# Altium schematic symbol library Schlib.SchLib: 5 symbols
Pins are listed as number, name and electrical type; pins without a type are passive.

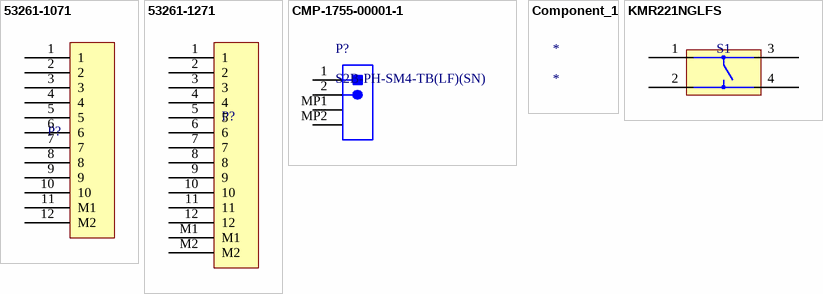
[diagram p0: symbols 53261-1071 to KMR221NGLFS]

## 53261-1071
designator P?  (value not drawn)
Headers & Wire Housings 1.25MM HDR 10 CKT Right-Angle; Manufacturer: Molex; Manufacturer Part Number: 53261-1071; Contact Resistance: 20mR; Number of Positions: 10; Gender: Male; Voltage Rating: 125V; Current Rating: 1A; Insulation Resistance: 100MR; Glow Wire Compliant: Non-compliant; Supplier 1: Digi-Key; Stock 1: 12832; Pricing 1: 1 = 1.88000, 10 = 1.70200, 100 = 1.45900, 500 = 1.21584 (USD); RoHS: Yes; Mount: Surface Mount; Contact Plating: Tin; Contact Material: Bronze; Housing Material: Thermoplastic; Min Operating Temperature: -40°C; Max Operating Temperature: 85°C; Packaging: Tape and Reel; Orientation: Right Angle; Package Quantity: 1000; Termination: SMD/SMT; Number of Rows: 1; Number of Contacts: 10; Voltage Rating (DC): 125V; Number of Circuits: 10; Pitch: 1.25mm; Radiation Hardening: No; Lead Free: Lead Free; Flammability Rating: UL94 V-0; REACH SVHC: Unknown; ComponentLink1URL: https://datasheet.ciiva.com/7167/1626154-7167504.pdf?src-supplier=Newark; ComponentLink1Description: https://datasheet.ciiva.com/7167/1626154-7167504.pdf?src-supplier=Newark; ComponentLink2URL: https://datasheet.ciiva.com/5154/0532611071-pcb-headers-256967-5154836.pdf?src-supplier=Mouser; ComponentLink2Description: https://datasheet.ciiva.com/5154/0532611071-pcb-headers-256967-5154836.pdf?src-supplier=Mouser; ComponentLink3URL: https://datasheet.ciiva.com/7810/1597313-7810535.pdf?src-supplier=Element14; ComponentLink3Description: https://datasheet.ciiva.com/7810/1597313-7810535.pdf?src-supplier=Element14; ComponentLink4URL: https://datasheet.ciiva.com/27055/1932598-27055000.pdf?src-supplier=Jameco; ComponentLink4Description: https://datasheet.ciiva.com/27055/1932598-27055000.pdf?src-supplier=Jameco; ComponentLink5URL: https://datasheet.ciiva.com/11747/0900766b8078fc91-11747290.pdf?src-supplier=RSComponents; ComponentLink5Description: https://datasheet.ciiva.com/11747/0900766b8078fc91-11747290.pdf?src-supplier=RSComponents; ComponentLink6URL: https://datasheet.ciiva.com/46440/1808533-46440933.pdf?src-supplier=Element14; ComponentLink6Description: https://datasheet.ciiva.com/46440/1808533-46440933.pdf?src-supplier=Element14; ComponentLink7URL: https://datasheet.ciiva.com/46440/1626154-46440951.pdf?src-supplier=Element14; ComponentLink7Description: https://datasheet.ciiva.com/46440/1626154-46440951.pdf?src-supplier=Element14; Supplier Part Number 1: WM7628CT-ND
footprint 53261-1071
pins: 1, 2, 3, 4, 5, 6, 7, 8, 9, 10, 11 M1, 12 M2

## 53261-1271
designator P?  (value not drawn)
Headers & Wire Housings 1.25MM HDR 12 CKT Right-Angle; Manufacturer: Molex; Manufacturer Part Number: 53261-1271; Body Plating: Tin; Contact Resistance: 20mR; Number of Positions: 12; Current Rating: 1A; Voltage Rating: 125V; Insulation Resistance: 100MR; Gender: Male; Glow Wire Compliant: Non-compliant; Supplier 1: Farnell; Stock 1: 2801; Pricing 1: 10 = 1.44000, 100 = 1.25000, 250 = 1.14000, 500 = 1.05000, 1000 = 0.84000, 2500 = 0.77800 (GBP); RoHS: Yes; Mount: Surface Mount; Color: Beige; Contact Plating: Tin; Contact Material: Bronze; Housing Material: Thermoplastic; Min Operating Temperature: -40°C; Max Operating Temperature: 85°C; Packaging: Tape and Reel; Orientation: Right Angle; Termination: Solder; Number of Rows: 1; Package Quantity: 1000; Voltage Rating (AC): 125V; Number of Contacts: 12; Working Voltage: 125V; Voltage Rating (DC): 125V; Number of Circuits: 12; Pitch: 1.25mm; Lead Pitch: 1.25mm; Radiation Hardening: No; Lead Free: Lead Free; REACH SVHC: Unknown; ComponentLink1URL: https://datasheet.ciiva.com/16657/0532611271-pcb-headers-16657841.pdf?src-supplier=Avnet+Europe; ComponentLink1Description: https://datasheet.ciiva.com/16657/0532611271-pcb-headers-16657841.pdf?src-supplier=Avnet+Europe; ComponentLink2URL: https://datasheet.ciiva.com/11749/0900766b8078fc82-11749268.pdf?src-supplier=RSComponents; ComponentLink2Description: https://datasheet.ciiva.com/11749/0900766b8078fc82-11749268.pdf?src-supplier=RSComponents; ComponentLink3URL: https://datasheet.ciiva.com/5156/0532611271-pcb-headers-256968-5156358.pdf?src-supplier=Mouser; ComponentLink3Description: https://datasheet.ciiva.com/5156/0532611271-pcb-headers-256968-5156358.pdf?src-supplier=Mouser; ComponentLink4URL: https://datasheet.ciiva.com/22704/1841148-22704823.pdf?src-supplier=Element14; ComponentLink4Description: https://datasheet.ciiva.com/22704/1841148-22704823.pdf?src-supplier=Element14; ComponentLink5URL: https://datasheet.ciiva.com/7814/1739297-7814874.pdf?src-supplier=Element14; ComponentLink5Description: https://datasheet.ciiva.com/7814/1739297-7814874.pdf?src-supplier=Element14; ComponentLink6URL: https://datasheet.ciiva.com/10083/0532611271-pcb-headers-10083068.pdf?src-supplier=Avnet; ComponentLink6Description: https://datasheet.ciiva.com/10083/0532611271-pcb-headers-10083068.pdf?src-supplier=Avnet; ComponentLink7URL: https://datasheet.ciiva.com/14488/1768013-14488444.pdf?src-supplier=Farnell; ComponentLink7Description: https://datasheet.ciiva.com/14488/1768013-14488444.pdf?src-supplier=Farnell; Supplier Part Number 1: 1125363
footprint 53261-1471
pins: 1, 2, 3, 4, 5, 6, 7, 8, 9, 10, 11, 12, M1, M2

## CMP-1755-00001-1
designator P?, comment S2B-PH-SM4-TB(LF)(SN)
Male Header, Pitch 2 mm, 1 x 2 Position, Height 5.5 mm, -25 to 85 degC, RoHS, Tape and Reel; Current Rating: 3 A; ComponentLink1URL: http://www.jst.com/home2.html; Radiation Hardening: No; RoHSCompliant: True; Mount: Through Hole; Contact Material: Bronze; Package Quantity: 100; Width: 2.34 mm; DatasheetVersion: Dec-12; Height: 8.13 mm; Max Operating Temperature: 105degC; ComponentLink2Description: Datasheet; Lead Pitch: 0.1 inch; Contact Finish: Lead; Packaging: Bulk; Colour: Black; Contact Plating: Tin; Min Operating Temperature: -65degC; ComponentLink1Description: Manufacturer URL; PackageReference: S2B-PH-SM4-TB(LF)(SN)-2; PackageDescription: Male Header, Pitch 2 mm, 1 x 2 Position, Height 5.5 mm; ComponentLink2URL: http://www.jst-mfg.com/product/pdf/eng/ePH.pdf; Pins: 40; Length: 101.19 mm
footprint JST- S2B-PH-SM4-TB(LF)(SN)-2_V (SMD, 2-Leads, Body 7.9x7.6mm, Pitch 2mm)
pins: 1, 2, MP1, MP2

## Component_1
designator *

## KMR221NGLFS
designator S1  (value not drawn)
SWITCH TACTILE SPST-NO 0.05A 32V; Manufacturer: ITT C&K; Manufacturer Part Number: KMR221NGLFS; Mechanical Life: 200000Cycles; Throw Configuration: SPST; Operating Force: 2N; Max Current Rating: 50mA; Power Rating: 1W; Illumination Type: Non-Illuminated; Switch Travel: 0.25mm; Switch Function: Off-Mom; Actuator Type: Standard; Actuator Length: 0.5mm; Supplier 1: Farnell; Stock 1: 3038; Pricing 1: 10 = 0.29100, 500 = 0.27600, 1000 = 0.21800, 5000 = 0.18500, 10000 = 0.18100 (GBP); RoHS: Yes; Mount: Surface Mount; Case/Package: SMD/SMT; Contact Material: Silver; Contact Plating: Silver; Min Operating Temperature: -40°C; Max Operating Temperature: 85°C; Voltage Rating (DC): 32V; Packaging: Tape and Reel; Package Quantity: 1; Max Voltage Rating (DC): 32V; Current Rating: 50mA; Termination: Gull Wing; Orientation: Straight; Length: 2.8mm; Depth: 4.6mm; Radiation Hardening: No; Lead Free: Lead Free; ComponentLink1URL: https://www.ckswitches.com/media/1479/kmr2.pdf?src-supplier=Digi-Key; ComponentLink1Description: https://www.ckswitches.com/media/1479/kmr2.pdf?src-supplier=Digi-Key; ComponentLink2URL: http://www.ck-components.com/14414/kmr2_9aug12.pdf/?src-supplier=Avnet+Europe; ComponentLink2Description: http://www.ck-components.com/14414/kmr2_9aug12.pdf/?src-supplier=Avnet+Europe; ComponentLink3URL: http://www1.futureelectronics.com/doc/C%20-%20K%20COMPONENTS/KMR221NGLFS.pdf?src-supplier=Future+Electronics; ComponentLink3Description: http://www1.futureelectronics.com/doc/C%20-%20K%20COMPONENTS/KMR221NGLFS.pdf?src-supplier=Future+Electronics; Supplier Part Number 1: 2845727
footprint SW
pins: 1, 2, 3, 4